# Altium footprint library TH.PcbLib: 3 footprints
Each footprint in its own frame and in the unit in brackets; x right, y up, seen from the top. Pads: shape width x height; smd on the part's side, far side on the other; paste and mask are expansions set on the pad; w line width, h text height; cw(c..) or ccw(c..) is an arc to the next point about the centre after c.
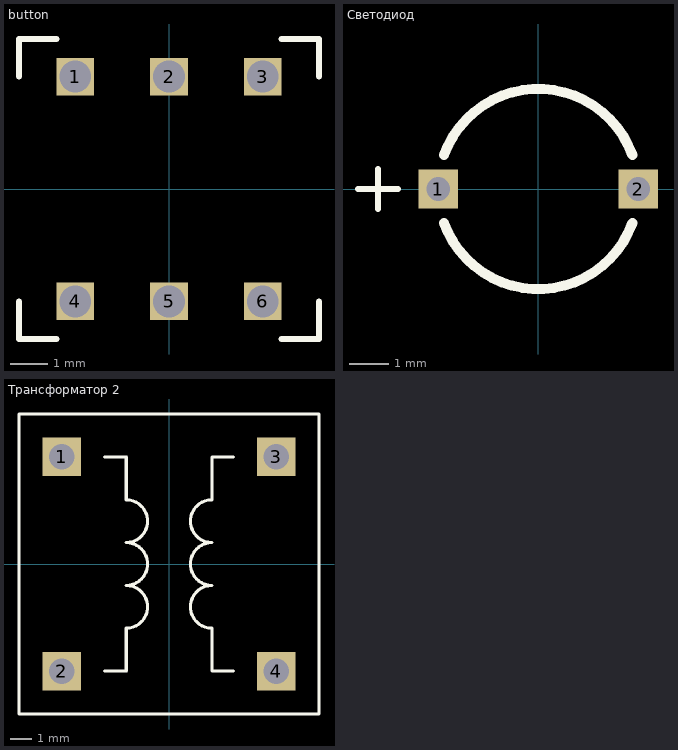
[diagram p0: the footprints below, top view; thin cyan lines are the x and y axes]

## button [mm]
pads (6):
  rect 1x1 hole 0.85: 1(-2.5,3) 2(0,3) 3(2.5,3) 4(-2.5,-3) 5(0,-3) 6(2.5,-3)
Top Overlay:
  lines w0.15: -4,-3 -4,-4 -3,-4 ; -4,3 -4,4 -3,4 ; 3,-4 4,-4 4,-3 ; 3,4 4,4 4,3

## Светодиод [mm]
pads (2):
  rect 1x1 hole 0.6: 1(-2.54,0) 2(2.54,0)
Top Overlay:
  lines w0.15: -4.572,0 -3.556,0 ; -4.064,-0.508 -4.064,0.508
  lines w0.254: -2.387,-0.869 ccw(c0,0) 2.387,-0.869 ; -2.387,0.869 cw(c0,0) 2.387,0.869

## Трансформатор 2 [mm]
pads (4):
  rect 1.8x1.8 hole 1.2: 1(-5,5) 2(-5,-5) 3(5,5) 4(5,-5)
Top Overlay:
  lines w0.15: -3,-5 -2,-5 ; -3,5 -2,5 ; 3,-5 2,-5 2,-3 cw(c2,-2) 2,-1 cw(c2,0) 2,1 cw(c2,2) 2,3 2,5 3,5 ; -2,-5 -2,-3 ccw(c-2,-2) -2,-1 ccw(c-2,0) -2,1 ccw(c-2,2) -2,3 -2,5 ; -2,-5 -2,-5 ; -2,5 -2,5 ; -7,-7 7,-7 7,7 -7,7 -7,-7